# Altium footprint library SF16_POWER.PcbLib: 31 footprints (part 2 of 2)
Each footprint in its own frame and in the unit in brackets; x right, y up, seen from the top. Pads: shape width x height; smd on the part's side, far side on the other; paste and mask are expansions set on the pad; w line width, h text height; cw(c..) or ccw(c..) is an arc to the next point about the centre after c.
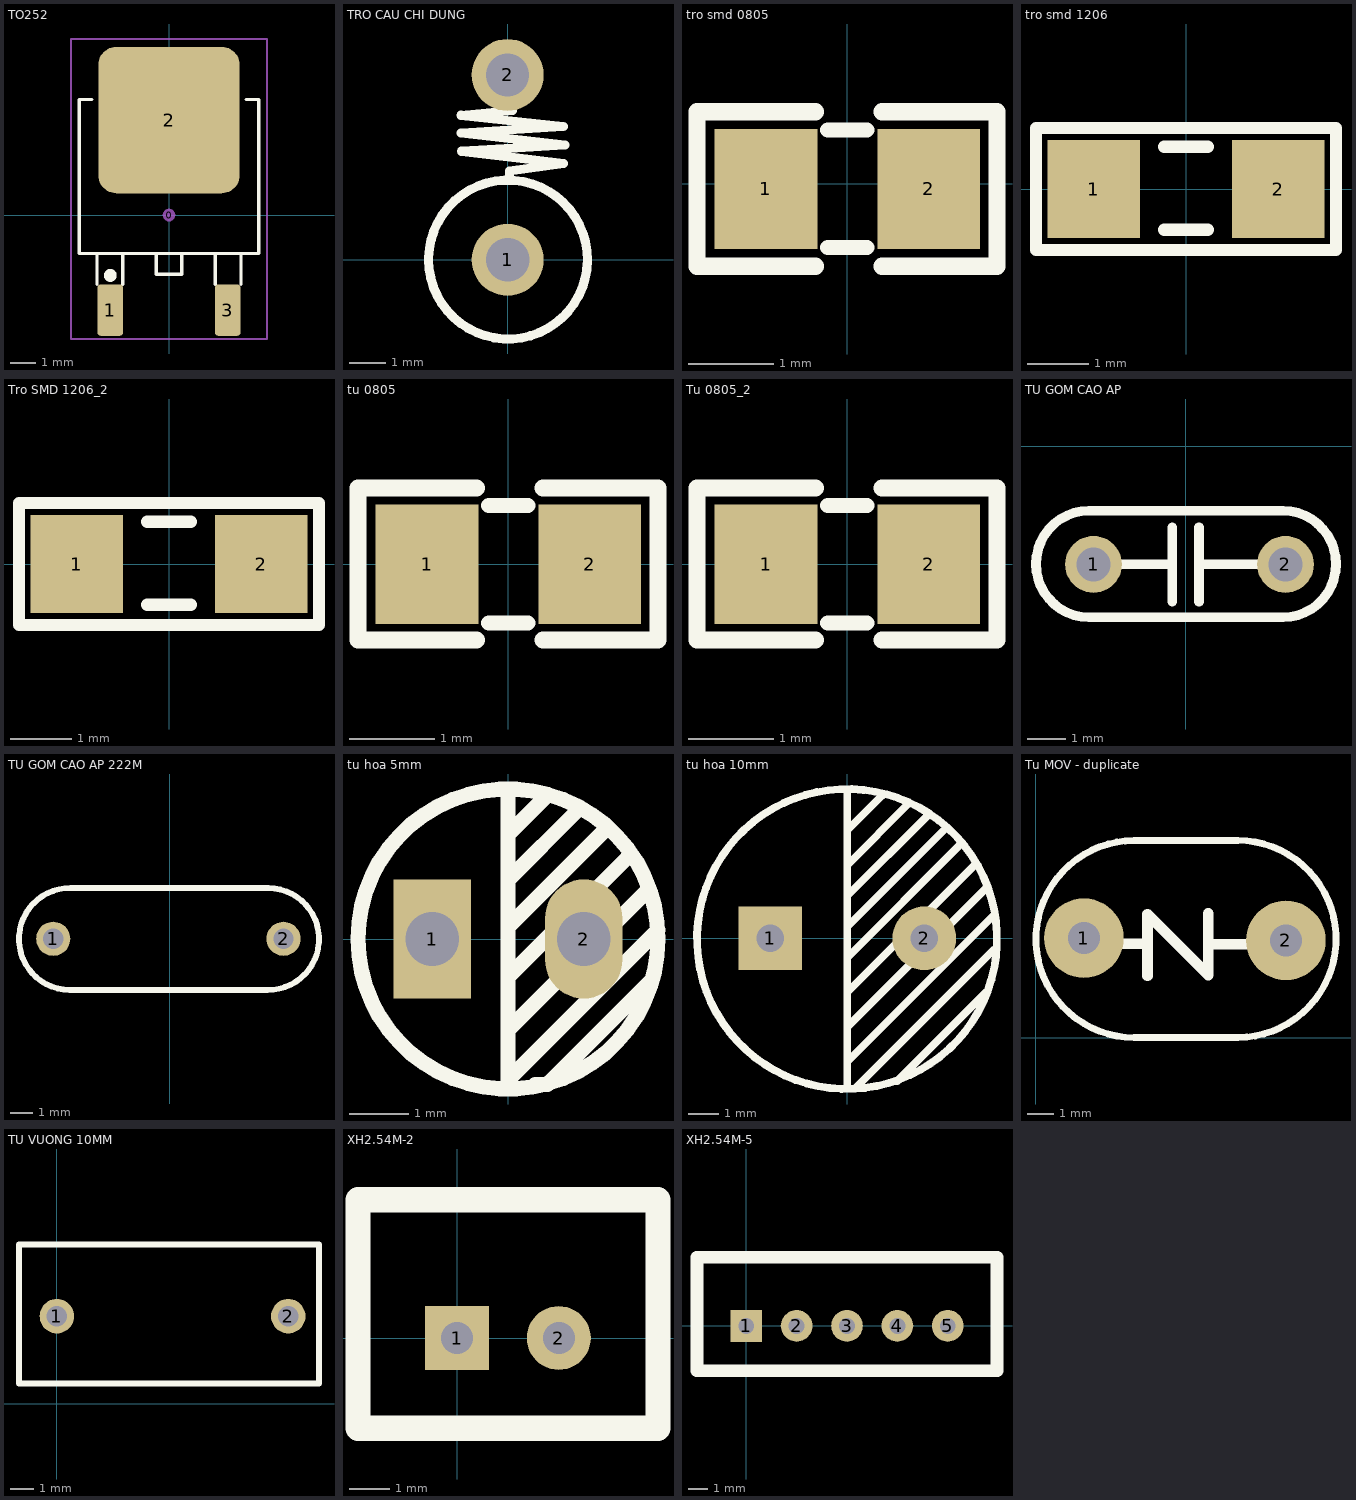
[diagram p1: the footprints below, top view; thin cyan lines are the x and y axes]

## TO252 [mm] "TO252"
height 1.27
pads (4):
  round 0.5 on Mech15: 0(0,0)
  rrect25% 1x2 smd: 1(-2.285,-3.7) 3(2.285,-3.7)
  rrect25% 5.5x5.7 smd: 2(0,3.7)
Top Overlay:
  circle w0.25: c-2.285,-2.35 r0.125
  lines w0.127: -3,4.5 -3.5,4.5 -3.5,-1.5 3.5,-1.5 3.5,4.5 3,4.5 ; -2.8,-2.7 -2.8,-1.5 -1.8,-1.5 -1.8,-2.7 ; 1.8,-2.7 1.8,-1.5 2.8,-1.5 2.8,-2.7 ; -0.5,-2.3 0.5,-2.3 0.5,-1.5 -0.5,-1.5 -0.5,-2.3
Mechanical 15:
  lines w0.076: -3.81,-4.826 3.81,-4.826 3.81,6.858 -3.81,6.858 -3.81,-4.826
3D body "DPAK.stp": height 2.31, standoff 0, extent -3.3,-3.951 3.3,5.762

## TRO CAU CHI DUNG [mm]
pads (2):
  round 2 hole 1.2: 1(0,0) 2(-0.002,5.136)
Top Overlay:
  region: 0.811,5.038 0.811,4.986 0.758,4.986 0.758,4.828 0.653,4.828 0.653,4.88 0.705,4.88 0.705,4.933 0.495,4.933 0.495,4.986 0.547,4.986 0.547,5.038 0.6,5.038 0.6,5.091 0.495,5.091 0.495,5.038 0.389,5.038 0.389,4.986 0.336,4.986 0.336,4.828 0.389,4.828 0.389,4.67 0.442,4.67 0.442,4.459 0.495,4.459 0.495,4.406 0.389,4.406 0.389,4.353 0.231,4.353 0.231,4.406 -0.085,4.406 -0.085,4.353 -0.191,4.353 -0.191,4.406 -0.243,4.406 -0.243,4.564 -0.401,4.564 -0.401,4.617 -0.559,4.617 -0.559,5.144 -0.507,5.144 -0.507,5.249 -0.454,5.249 -0.454,5.355 -0.507,5.355 -0.507,5.407 -0.454,5.407 -0.454,5.513 -0.401,5.513 -0.401,5.565 -0.296,5.565 -0.296,5.618 -0.243,5.618 -0.243,5.671 -0.138,5.671 -0.138,5.724 -0.032,5.724 -0.032,5.776 0.336,5.776 0.336,5.724 0.547,5.724 0.547,5.671 0.653,5.671 0.653,5.565 0.758,5.565 0.758,5.46 0.811,5.46 0.811,5.355 0.863,5.355 0.863,5.249 0.811,5.249 0.811,5.197 0.758,5.197 0.758,5.144 0.811,5.144 0.811,5.091
  region: 0.6,4.67 0.6,4.722 0.653,4.722 0.653,4.617 0.6,4.617
  lines w0.254: -2.199,-0.004 ccw(c0.008,0.007) -2.198,0.062 ; 0.05,2.225 0.05,2.464 1.55,2.681 -1.284,3.018 1.596,3.194 -1.301,3.519 1.544,3.708 -1.301,4.016 0.136,4.152 0.142,4.324
3D body "User Library-1W right 100mil.sldprt": height 13.57, standoff -3.5, extent -1.897,-1.552 1.903,3.189

## tro smd 0805 [mm]
height 1.27
pads (2):
  rect 1.2x1.4 smd: 1(-0.946,-0.061) 2(0.954,-0.061)
Top Overlay:
  lines w0.178: -0.224,-0.747 0.233,-0.747 ; -0.224,0.625 0.233,0.625
  lines w0.2: -0.367,-0.965 -1.75,-0.965 -1.75,0.838 -0.367,0.838 ; 0.408,-0.965 1.75,-0.965 1.75,0.838 0.408,0.838
3D body "Tro 0805.STEP": height 0.53, standoff 0, extent -1.562,-0.763 1.438,0.637

## tro smd 1206 [mm]
height 1.27
pads (2):
  rect 1.5x1.6 smd: 1(-1.5,0) 2(1.5,0)
Top Overlay:
  lines w0.2: -0.356,-0.66 0.356,-0.66 ; -0.356,0.686 0.356,0.686 ; -2.438,-0.991 2.438,-0.991 2.438,-0.203 2.438,0.991 -2.438,0.991 -2.438,-0.991
3D body "Resistor SMD 1206.step": height 0.6, standoff 0, extent -1.6,-0.8 1.6,0.8

## Tro SMD 1206_2 [mm]
pads (2):
  rect 1.5x1.6 smd: 1(-1.5,0) 2(1.5,0)
Top Overlay:
  lines w0.2: -0.356,-0.66 0.356,-0.66 ; -0.356,0.686 0.356,0.686 ; -2.438,-0.991 2.438,-0.991 2.438,-0.203 2.438,0.991 -2.438,0.991 -2.438,-0.991
3D body "Resistor SMD 1206.step": height 0.6, standoff 0, extent -1.6,-0.8 1.6,0.8

## tu 0805 [mm] "Compoment SMD 80x50mil"
height 1.27
pads (2):
  rect 1.2x1.4 smd: 1(-0.946,-0.003) 2(0.954,-0.003)
Top Overlay:
  lines w0.178: -0.224,-0.689 0.233,-0.689 ; -0.224,0.682 0.233,0.682
  lines w0.2: -0.367,-0.889 -1.753,-0.889 -1.753,0.889 -0.367,0.889 ; 0.408,-0.889 1.753,-0.889 1.753,0.889 0.408,0.889
3D body "SW3dPS-smt_resistor_packages.STEP": height 0.61, standoff -0.01, extent -1.006,-0.638 1.014,0.632

## Tu 0805_2 [mm]
pads (2):
  rect 1.2x1.4 smd: 1(-0.946,-0.003) 2(0.954,-0.003)
Top Overlay:
  lines w0.178: -0.224,-0.689 0.233,-0.689 ; -0.224,0.682 0.233,0.682
  lines w0.2: -0.367,-0.889 -1.753,-0.889 -1.753,0.889 -0.367,0.889 ; 0.408,-0.889 1.753,-0.889 1.753,0.889 0.408,0.889
3D body "SW3dPS-smt_resistor_packages.STEP": height 0.61, standoff -0.01, extent -1.006,-0.638 1.014,0.632

## TU GOM CAO AP [mm] "TU GOM CAO AP"
height 1.75
pads (2):
  round 1.5 hole 0.9: 1(-2.431,-3.119) 2(2.631,-3.119)
Top Overlay:
  lines w0.254: -2.431,-3.119 -0.358,-3.119 ; -0.358,-4.1 -0.358,-2.137 ; 0.352,-4.1 0.352,-2.137 ; 0.352,-3.119 2.631,-3.119 ; -2.561,-4.518 cw(c-2.539,-3.109) -2.557,-1.699 2.577,-1.699 cw(c2.554,-3.109) 2.572,-4.518 -2.561,-4.518
3D body "User Library-Cap 100n.step": height 6.12, standoff -1.8, extent -2.893,-3.973 2.946,-2.277

## TU GOM CAO AP 222M [mm] "TU GOM CAO AP"
pads (2):
  round 1.5 hole 0.9: 1(-5.125,-7.375) 2(5,-7.375)
Top Overlay:
  lines w0.254: -4.409,-9.623 cw(c-4.39,-7.385) -4.356,-5.147 4.342,-5.147 cw(c4.322,-7.385) 4.288,-9.623 -4.409,-9.623

## tu hoa 5mm [mm]
height 1.75
pads (2):
  rect 1.3x2 hole 0.9: 1(-1.27,0)
  oval 1.3x2 hole 0.9: 2(1.27,0)
Top Overlay:
  circle w0.254: c0,0 r2.515
  lines w0.254: 0,-2.489 0,2.515 ; 0,-2.362 2.515,0.152 ; 0,-1.549 0,-1.524 2.362,0.838 ; 0,-0.737 0,-0.635 2.007,1.372 ; 0,0.203 1.651,1.854 ; 0,0.965 0,0.991 1.168,2.159 ; 0,1.727 0,1.321 0,1.753 0.61,2.362 ; 0.457,-2.438 0.66,-2.438 2.388,-0.711
3D body "Cap electro 6_3x11x2_5mm.step": height 11.33, standoff -3.21, extent -3.125,-3.175 3.226,3.175

## tu hoa 10mm [mm]
height 1.75
pads (2):
  rect 2.1x2.1 hole 0.9: 1(-2.54,0)
  round 2.1 hole 0.9: 2(2.54,0)
Top Overlay:
  lines w0.254: 0,-4.064 4.826,0.762 ; 0,-3.302 0,-2.921 4.572,1.651 ; 0,-1.905 0,-1.778 4.191,2.413 ; 0,-1.143 0,-0.635 3.683,3.048 ; 0,0.254 0,0.381 3.175,3.556 ; 0,1.397 2.667,4.064 ; 0,1.905 0,2.413 2.032,4.445 ; 0,2.921 0,3.556 1.143,4.699 ; 0,4.826 0,-4.953 0.254,-4.953 4.826,-0.381 ; 1.651,-4.699 4.572,-1.778 ; 3.591,3.365 ccw(c-0.008,-0.022) 3.623,3.33
3D body "User Library-Capacitor Radial Electrolitic 500-1000x2000.step": height 20.01, standoff -2.7, extent -5,-5 4.967,5

## Tu MOV - duplicate [mm]
pads (2):
  round 3 hole 1.2 paste-2539.97 mask+0: 1(1.821,3.753) 2(9.445,3.662)
Top Overlay:
  lines w0.2: 3.009,3.54 4.236,3.54 ; 6.737,3.549 7.965,3.549
  lines w0.254: 3.72,-0.004 cw(c3.736,3.716) 3.72,7.436 7.625,7.436 ; 3.725,0 7.63,0 ccw(c7.615,3.72) 7.63,7.44
  lines w0.406: 2.972,3.54 4.218,3.54 ; 4.218,2.333 4.218,4.655 6.511,2.362 6.511,4.681 ; 6.511,3.522 7.937,3.522
3D body "User Library-final MOV7,5.STEP": height 16.5, standoff -2, extent 0,2.745 11.29,4.595

## TU VUONG 10MM [mm] "Tu gom mini"
pads (2):
  round 1.5 hole 0.9: 1(0,3.81) 2(10.075,3.81)
Top Overlay:
  lines w0.254: -1.65,0.875 11.415,0.875 11.415,6.935 -1.65,6.935 -1.65,0.875

## XH2.54M-2 [mm]
height 1.27
pads (2):
  rect 1.6x1.6 hole 0.8: 1(0,0)
  round 1.6 hole 0.8: 2(2.54,0)
Top Overlay:
  lines w0.635: -2.48,-2.26 -2.48,3.46 5.02,3.46 5.02,-2.26 -2.48,-2.26
3D body "XH2.54M-2.STEP": height 6.91, standoff -1.82, extent -2.48,-2.26 5.02,3.48

## XH2.54M-5 [mm]
pads (5):
  rect 1.6x1.6 hole 0.8: 1(0,0)
  round 1.6 hole 0.8: 2(2.54,0) 3(5.08,0) 4(7.62,0) 5(10.16,0)
Top Overlay:
  lines w0.635: -2.48,-2.26 12.64,-2.26 12.64,3.46 -2.48,3.46 -2.48,-2.26
3D body "XH2.54M-5.STEP": height 6.91, standoff -1.82, extent -2.48,-2.26 12.64,3.48